# Altium integrated library 5 Pin Header Male With Shield.IntLib: 1 symbol
Pins are listed as number, name and electrical type; pins without a type are passive.

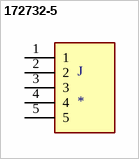
[diagram p0: symbol 172732-5]

## 172732-5
designator J
POST HEADER 5P EIS WITH KINK; Product_Type: Connector; MF: TE Connectivity; Centerline_Pitch: 2.5 mm[.098 in]; Number_of_Positions: 5; MP: 172732-5; EU_RoHS_Compliance: Compliant; TE_purchase_URL: https://www.te.com/usa-en/product-172732-5.html?te_bu=Cor&te_type=disp&te_campaign=seda_glo_cor-seda-global-disp-prtnr-fy19-seda-model-bom-cta_sma-317_1&elqCampaignId=32493; Package: None; Availability: Unavailable; Price: None; SnapEDA_Link: https://www.snapeda.com/parts/172732-5/TE%20Connectivity%20AMP%20Connectors/view-part/1369498/?ref=snap; Value: *
footprint TE_172732-5
pins: 1, 2, 3, 4, 5